# Altium footprint library 按钮.PcbLib: 1 footprints
Each footprint in its own frame and in the unit in brackets; x right, y up, seen from the top. Pads: shape width x height; smd on the part's side, far side on the other; paste and mask are expansions set on the pad; w line width, h text height; cw(c..) or ccw(c..) is an arc to the next point about the centre after c.
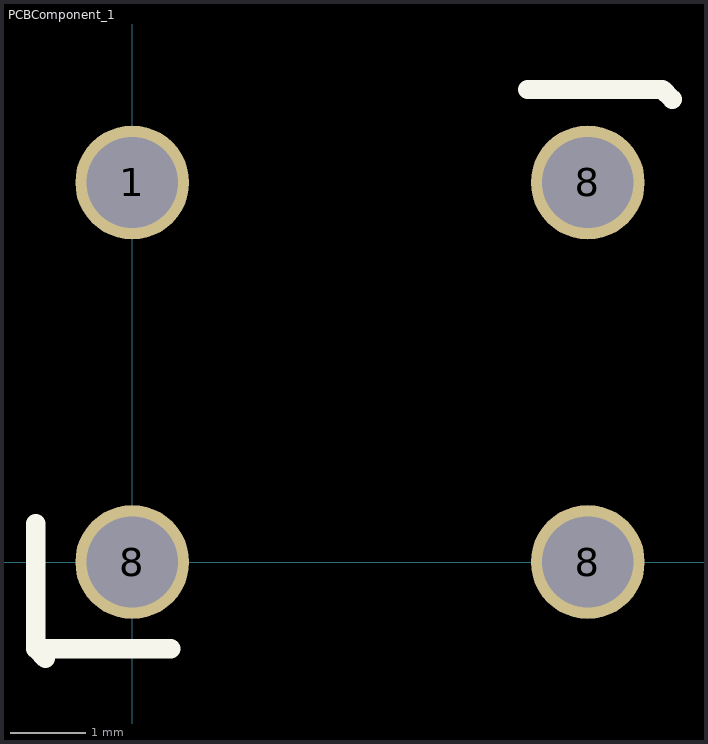
[diagram p0: the footprint, top view; thin cyan lines are the x and y axes]

## PCBComponent_1 [mm]
pads (4):
  round 1.5 hole 1.2: 1(0,5) 8(0,0) 8(6,0) 8(6,5)
Top Overlay:
  lines w0.254: -1.27,0.508 -1.27,-1.143 ; -1.143,-1.27 -1.27,-1.143 ; 0.508,-1.143 -1.27,-1.143 ; 5.207,6.223 6.985,6.223 7.112,6.096